# EAGLE library part DRV8838 (library SobieskiSat2)
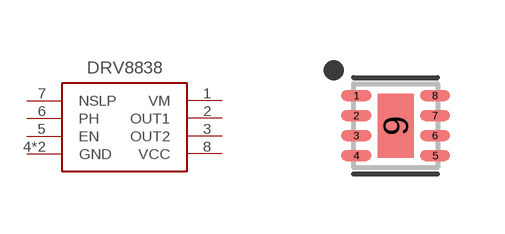
[diagram p14: symbol with the pads of SON50P200X200X80-9T90X160N; footprint SON50P200X200X80-9T90X160N]

Designator prefix -

## DRV8838  [SON50P200X200X80-9T90X160N]
1  VM
2  OUT1
3  OUT2
4  GND
5  EN
6  PH
7  NSLP
8  VCC
9  GND

## Footprint SON50P200X200X80-9T90X160N (pad centres in mm)
8-SON (DFN), 0.50 mm pitch, 2.00 X 2.00 X 0.80 mm body, 1.60 X 0.90 mm thermal pad 8-pin SON (DFN) package with 0.50 mm pitch with body size 2.00 X 2.00 X 0.80 mm and thermal pad size 1.60 X 0.90 mm
smd 0.76 x 0.279: 1 -0.985,0.75; 2 -0.985,0.25; 3 -0.985,-0.25; 4 -0.985,-0.75; 5 0.985,-0.75; 6 0.985,-0.25; 7 0.985,0.25; 8 0.985,0.75
smd 0.9 x 1.6: 9 0,0